# Altium schematic symbol library COM-09032.SchLib: 1 symbol
Pins are listed as number, name and electrical type; pins without a type are passive.

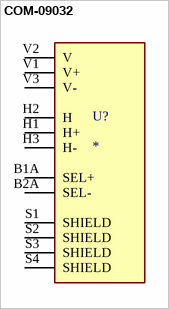
[diagram p0: symbol COM-09032]

## COM-09032
designator U?
Thumb Joystick; MP: COM-09032; Price: None; Package: None; Availability: Unavailable; Value: *
footprint XDCR_COM-09032
pins: B1A SEL+, B2A SEL-, H1 H+, H2 H, H3 H-, S1 SHIELD, S2 SHIELD, S3 SHIELD, S4 SHIELD, V1 V+, V2 V, V3 V-